# Altium schematic symbol library NCR320UX.Schlib: 1 symbol
Pins are listed as number, name and electrical type; pins without a type are passive.

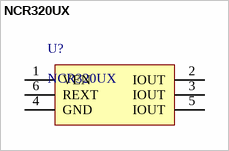
[diagram p0: symbol NCR320UX]

## NCR320UX
designator U?
LED Driver IC 1 Output Linear Constant Current PWM Dimming 250mA 6-TSOP
pins: 1 VEN, 2 IOUT, 3 IOUT, 4 GND, 5 IOUT, 6 REXT